# EAGLE library part 6250XX21721_62501421721 (library con-wurth)
WR-BHD 2.00 mm Male Angled Box Header KIND PROPERTIES: Pitch 2 mm Gender:Male MATERIAL PROPERTIES: Insulator Material:PBT Insulator Flammability Rating UL94 V-0 Insulator Color:Black Contact Material :Copper Alloy Contact Plating :Gold Contact Type: Stamped GENERAL INFORMATION: Operating Temperature:-40 °C up to +125 °C Compliance:RoHS Working Voltage: 250 V (AC) Withstanding Voltage:500 V (AC) Contact Resistance: 20 mΩ Insulation Resistance:1000 MΩ PACKAGING PROPERTIES Packaging :Tray <https://www.we-online.de/katalog/media/o32929v209%20Family_WR-BHD_6250xx21721.jpg> Details see: https://www.we-online.de/katalog/en/em/BHD_2_00_MALE_ANGLED_BOX_HEADER_6250XX21721 Updated by Yingchun,Shan 2019-11-04 2019 (C) Würth Elektronik
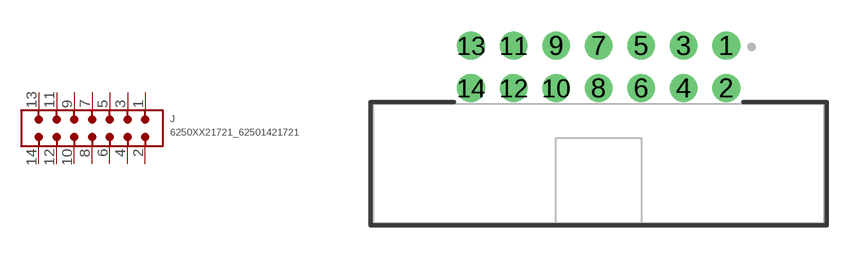
[diagram p5: symbol with the pads of 62501421721; footprint 62501421721]

Designator prefix J

## 6250XX21721_62501421721 (CONTACT-RESISTANCE: 20mOhm; DATASHEET-URL: https://www.we-online.com/redexpert/spec/62501421721?ae; GENDER: Male; IR: 2A; LENGTH: 21.25mm; MOUNT: THT; PACKAGING: Tray; PART-NUMBER: 62501421721; PINS: 14; PITCH: 2mm; TYPE: Angled; VALUE: 62501421721; WORKING-VOLTAGE: 250V(AC))  [62501421721]
1  1  pas
2  2  pas
3  3  pas
4  4  pas
5  5  pas
6  6  pas
7  7  pas
8  8  pas
9  9  pas
10  10  pas
11  11  pas
12  12  pas
13  13  pas
14  14  pas

## Footprint 62501421721 (pad centres in mm)
WR-BHD 2.00 mm Male Angled Box Header,14 pins
drill 0.8: 1 6,5.55; 2 6,3.55; 3 4,5.55; 4 4,3.55; 5 2,5.55; 6 2,3.55; 7 0,5.55; 8 0,3.55; 9 -2,5.55; 10 -2,3.55; 11 -4,5.55; 12 -4,3.55; 13 -6,5.55; 14 -6,3.55